# Altium footprint library PEC092325FS0015.PcbLib: 1 footprints
Each footprint in its own frame and in the unit in brackets; x right, y up, seen from the top. Pads: shape width x height; smd on the part's side, far side on the other; paste and mask are expansions set on the pad; w line width, h text height; cw(c..) or ccw(c..) is an arc to the next point about the centre after c.
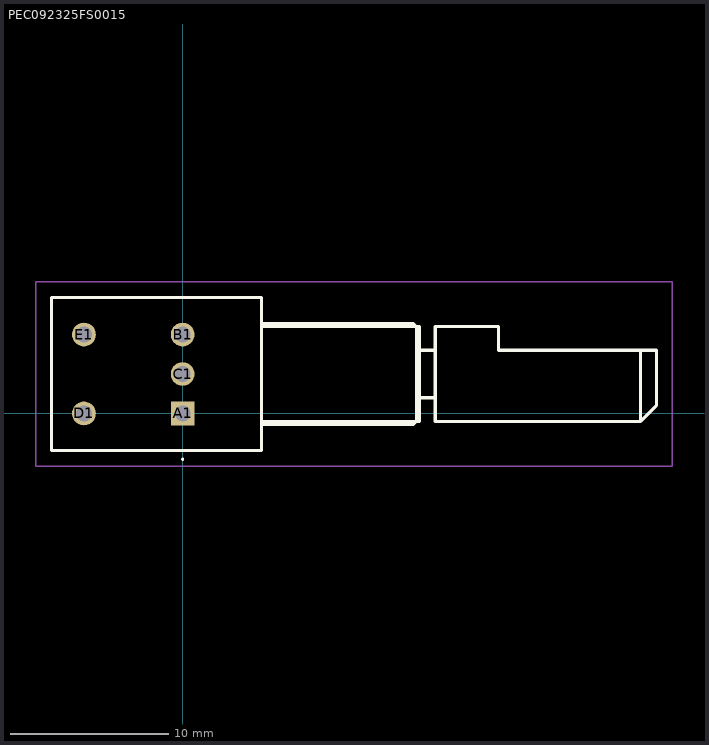
[diagram p0: the footprint, top view; thin cyan lines are the x and y axes]

## PEC092325FS0015 [mm]
pads (5):
  rect 1.5x1.5 hole 1: A1(0,0)
  round 1.5 hole 1: B1(0,5) C1(0,2.5) D1(-6.25,0) E1(-6.25,5)
Top Overlay:
  lines w0.1: 0,-2.95 cw(c0,-2.9) 0,-2.85 ; 0,-2.95 0,-2.95 ; 0,-2.95 ccw(c0,-2.9) 0,-2.85 ; 0,-2.85 0,-2.85
  lines w0.2: 5,-0.7 14.6,-0.7 14.8,-0.5 14.8,5.5 14.6,5.7 5,5.7 ; 5,-0.5 15,-0.5 15,5.5 5,5.5 ; 15,1 16,1 ; 15,4 16,4 ; 29,4 29,-0.5 ; 16,1 16,4 ; 16,1 16,-0.5 29,-0.5 ; 16,4 16,5.5 20,5.5 20,4 30,4 30,0.5 29,-0.5 ; -8.3,-2.35 5,-2.35 5,7.35 -8.3,7.35 -8.3,-2.35
Mechanical 15:
  lines w0.1: 5,-0.7 14.6,-0.7 14.8,-0.5 14.8,5.5 14.6,5.7 5,5.7 ; 5,-0.5 15,-0.5 15,5.5 5,5.5 ; 15,1 16,1 ; 15,4 16,4 ; 29,4 29,-0.5 ; 16,1 16,4 ; 16,1 16,-0.5 29,-0.5 ; 16,4 16,5.5 20,5.5 20,4 30,4 30,0.5 29,-0.5 ; -8.3,-2.35 5,-2.35 5,7.35 -8.3,7.35 -8.3,-2.35
Mechanical 20:
  lines w0.1: -9.3,-3.35 31,-3.35 31,8.35 -9.3,8.35 -9.3,-3.35